# EAGLE library part MAXIM1152 (library MAX11621EEE)
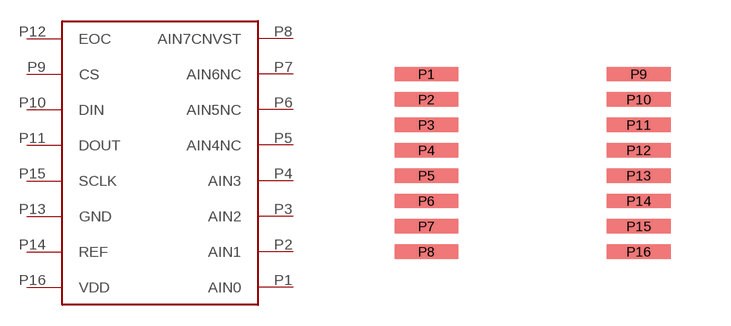
[diagram p0: symbol with the pads of 16-SSOTMAXIM; footprint 16-SSOTMAXIM]

Designator prefix -

## MAXIM1152SMT  [16-SSOTMAXIM]
P1  AIN0
P2  AIN1
P3  AIN2
P4  AIN3
P5  AIN4NC
P6  AIN5NC
P7  AIN6NC
P8  AIN7CNVST
P9  CS
P10  DIN
P11  DOUT
P12  EOC
P13  GND
P14  REF
P15  SCLK
P16  VDD

## Footprint 16-SSOTMAXIM (pad centres in mm)
smd 1.6 x 0.36: P1 -2.7,1.905; P2 -2.7,1.27; P3 -2.7,0.635; P4 -2.7,0; P5 -2.7,-0.635; P6 -2.7,-1.27; P7 -2.7,-1.905; P8 -2.7,-2.54; P9 2.61,1.905; P10 2.61,1.27; P11 2.61,0.635; P12 2.61,0; P13 2.61,-0.635; P14 2.61,-1.27; P15 2.61,-1.905; P16 2.61,-2.54